# Altium schematic symbol library PreChargeAIL_schematiccomponents.SchLib: 10 symbols
Pins are listed as number, name and electrical type; pins without a type are passive.

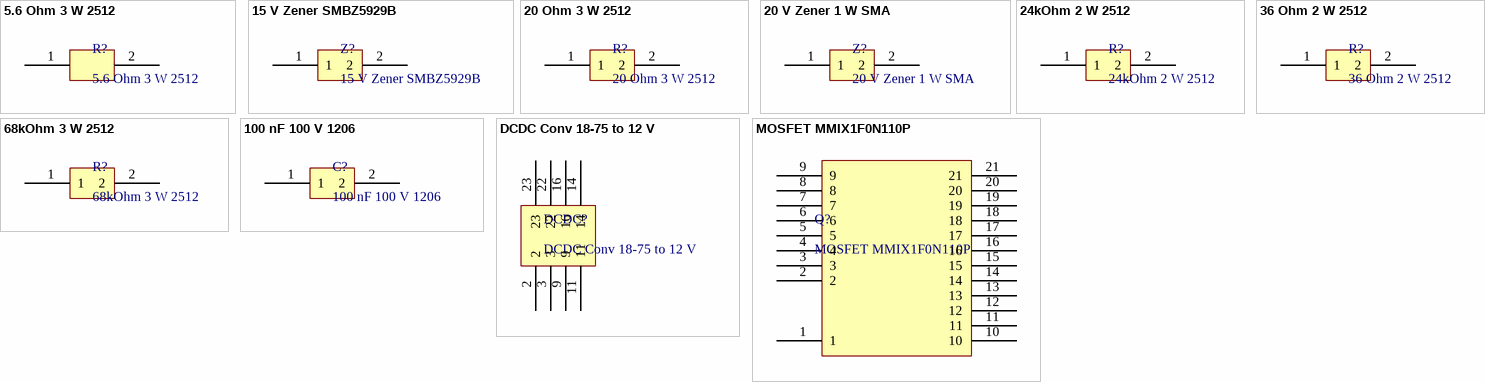
[diagram p0: symbols 5.6 Ohm 3 W 2512 to MOSFET MMIX1F0N110P]

## 5.6 Ohm 3 W 2512
designator R?
footprint 5.6 Ohm 3 W 2512 (5.6 Ohm 3 W 2512 TE con)
pins: 1, 2

## 15 V Zener SMBZ5929B
designator Z?
footprint 15 V Zener SMBZ5929B SMT (15 V Zener SMBZ5929B SMT DO 214AA)
pins: 1, 2

## 20 Ohm 3 W 2512
designator R?
footprint 20 Ohm 3W 2512 (20 Ohm 3 W 2512 3522 Series TE Con)
pins: 1, 2

## 20 V Zener 1 W SMA
designator Z?
footprint Zener 20 V 1 W SMA
pins: 1, 2

## 24kOhm 2 W 2512
designator R?
footprint 24kOhm 2 W 2512 (24kOhm 2 W 2512 TE Con)
pins: 1, 2

## 36 Ohm 2 W 2512
designator R?
footprint 36 Ohm 2 W 2512 (36 Ohm 2 W 2512 TE con)
pins: 1, 2

## 68kOhm 3 W 2512
designator R?
footprint 68kOhm 3 W 2512 (68kOhm 3 W 2512 TE Con 3522 series)
pins: 1, 2

## 100 nF 100 V 1206
designator C?
footprint 100 nF 100 V 1206
pins: 1, 2

## DCDC Conv 18-75 to 12 V
designator DCDC?
DCDC Conv 18-75 to 12 V 2 W
footprint DCDC Traco 18-75 to 12 V
pins: 2, 3, 9, 11, 14, 16, 22, 23

## MOSFET MMIX1F0N110P
designator Q?
footprint Mosfet MMIX1F40N110P (Power Mosfet MMIX1F40N110P IXYS 1100 V 24 A)
pins: 1, 2, 3, 4, 5, 6, 7, 8, 9, 10, 11, 12, 13, 14, 15, 16, 17, 18, 19, 20, 21